# EAGLE library part ADUM5000ARWZ (library ScouseTom_New)
2.5 kV, Isolated DC-to-DC Converter
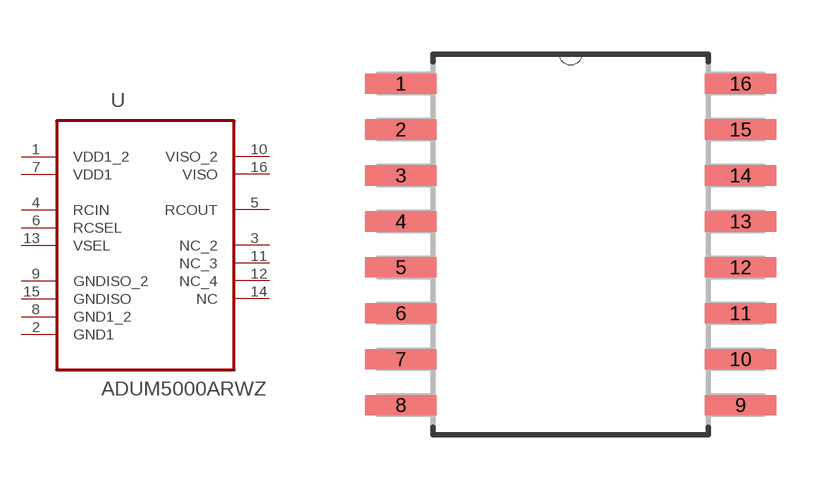
[diagram p2: symbol with the pads of SOIC127P1032X265-16N; footprint SOIC127P1032X265-16N]

Designator prefix U

## ADUM5000ARWZ (MPN: ADUM5000ARWZ; OC_FARNELL: 1701256; OC_NEWARK: 19P8235; PACKAGE: SOIC-16; SUPPLIER: Analog Devices)  [SOIC127P1032X265-16N]
1  VDD1_2  pwr
2  GND1  pas
3  NC_2  nc
4  RCIN  in
5  RCOUT  out
6  RCSEL  in
7  VDD1  pwr
8  GND1_2  pas
9  GNDISO_2  pas
10  VISO_2  out
11  NC_3  nc
12  NC_4  nc
13  VSEL  in
14  NC  nc
15  GNDISO  pas
16  VISO  out

## Footprint SOIC127P1032X265-16N (pad centres in mm)
smd 1.981 x 0.559: 1 -4.699,4.445; 2 -4.699,3.175; 3 -4.699,1.905; 4 -4.699,0.635; 5 -4.699,-0.635; 6 -4.699,-1.905; 7 -4.699,-3.175; 8 -4.699,-4.445; 9 4.699,-4.445; 10 4.699,-3.175; 11 4.699,-1.905; 12 4.699,-0.635; 13 4.699,0.635; 14 4.699,1.905; 15 4.699,3.175; 16 4.699,4.445